# EAGLE library part CY62148 (library ML497A)
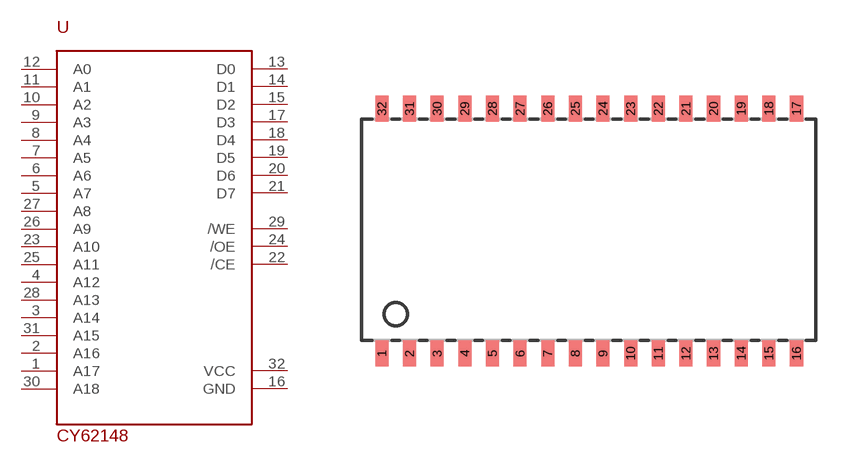
[diagram p2: symbol with the pads of TSOP32-II; footprint TSOP32-II]

Designator prefix -

## CY62148  [TSOP32-II]
1  A17
2  A16
3  A14
4  A12
5  A7
6  A6
7  A5
8  A4
9  A3
10  A2
11  A1  out
12  A0  in
13  D0
14  D1
15  D2
16  GND
17  D3
18  D4
19  D5
20  D6
21  D7
22  /CE
23  A10
24  /OE
25  A11
26  A9
27  A8
28  A13
29  /WE
30  A18
31  A15
32  VCC

## Footprint TSOP32-II (pad centres in mm)
smd 0.6 x 1.2: 1 -8.255,-5.627; 2 -6.985,-5.627; 3 -5.715,-5.627; 4 -4.445,-5.627; 5 -3.175,-5.627; 6 -1.905,-5.627; 7 -0.635,-5.627; 8 0.635,-5.627; 9 1.905,-5.627; 10 3.175,-5.627; 11 4.445,-5.627; 12 5.715,-5.627; 13 6.985,-5.627; 14 8.255,-5.627; 15 9.525,-5.627; 16 10.795,-5.627; 17 10.795,5.629; 18 9.525,5.629; 19 8.255,5.629; 20 6.985,5.629; 21 5.715,5.629; 22 4.445,5.629; 23 3.175,5.629; 24 1.905,5.629; 25 0.635,5.629; 26 -0.635,5.629; 27 -1.905,5.629; 28 -3.175,5.629; 29 -4.445,5.629; 30 -5.715,5.629; 31 -6.985,5.629; 32 -8.255,5.629